# Altium footprint library Miscellaneous$.PcbLib: 26 footprints (part 1 of 2)
Each footprint in its own frame and in the unit in brackets; x right, y up, seen from the top. Pads: shape width x height; smd on the part's side, far side on the other; paste and mask are expansions set on the pad; w line width, h text height; cw(c..) or ccw(c..) is an arc to the next point about the centre after c.
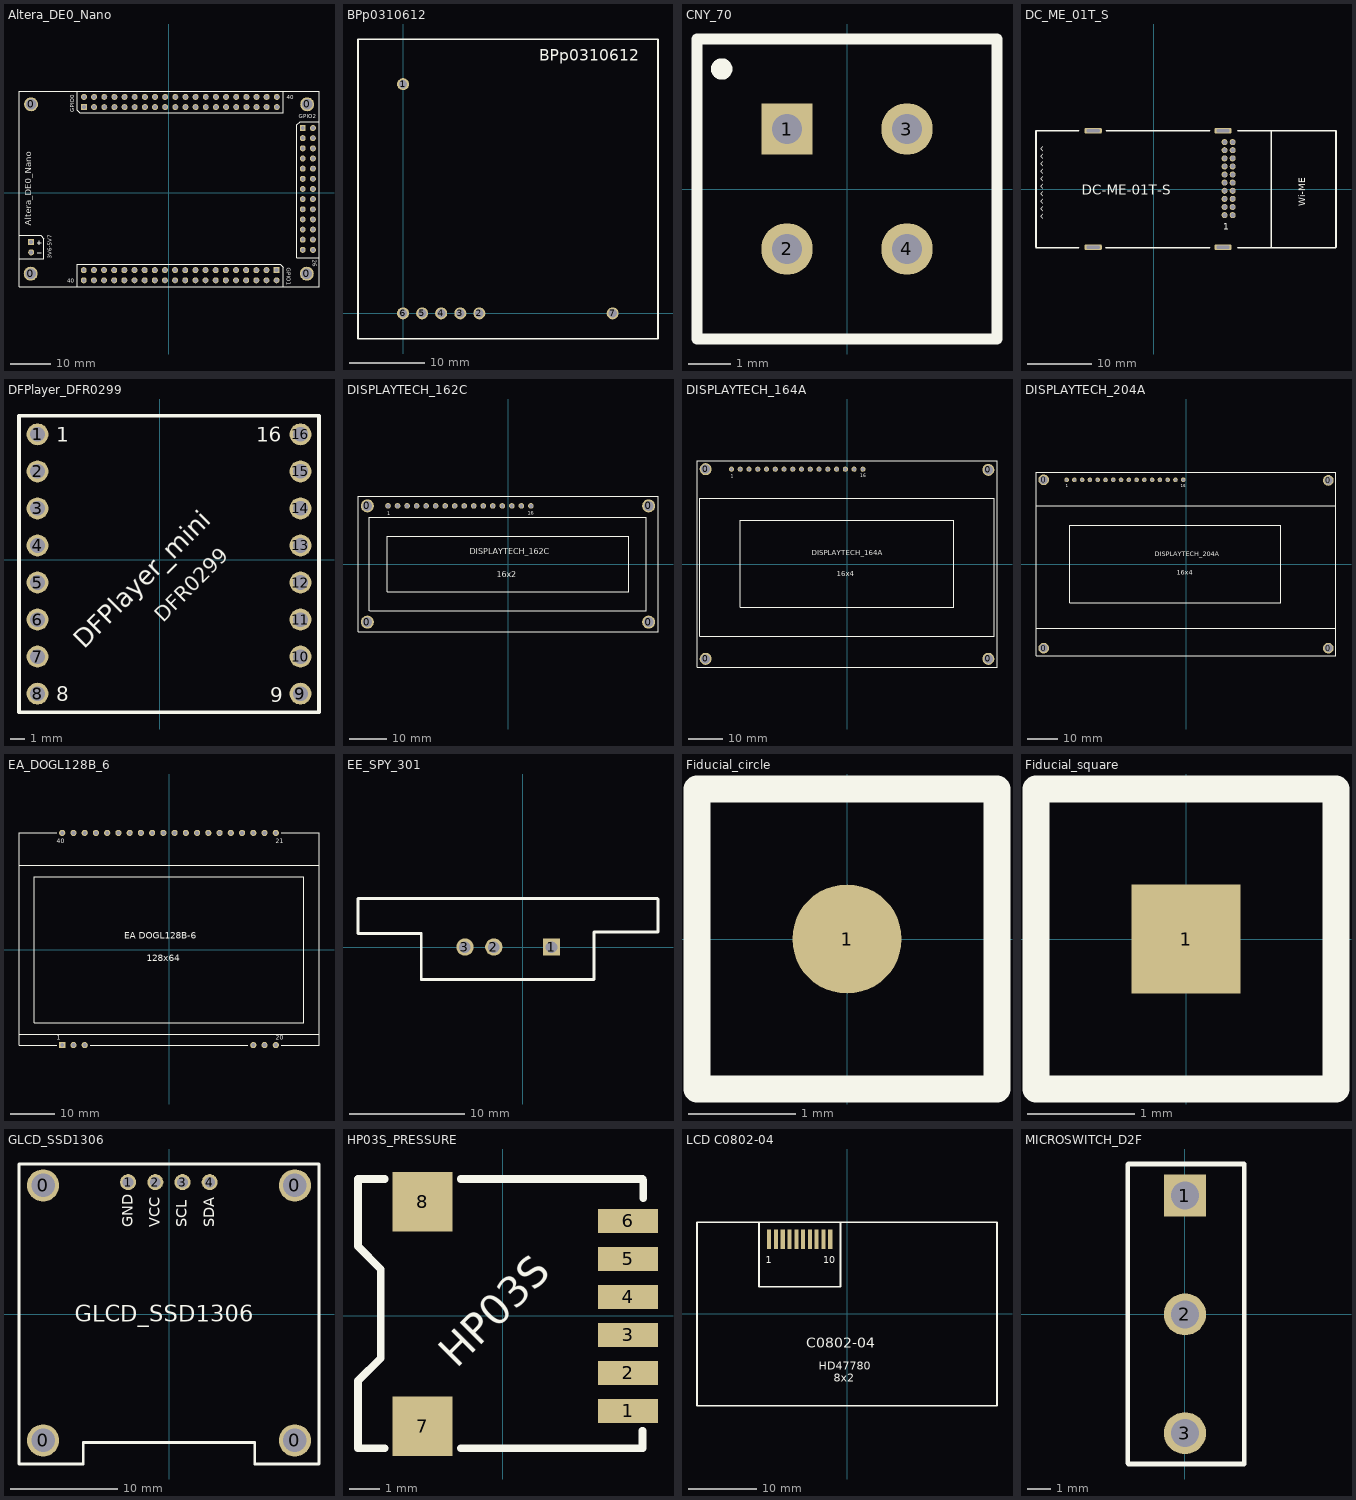
[diagram p0: the footprints below, top view; thin cyan lines are the x and y axes]

## Altera_DE0_Nano [mm]
height 23
pads (112):
  round 3.5 hole 2.6: 0(-34.583,-20.2) 0(-34.481,22.202) 0(34.517,-20.2) 0(34.619,22.202)
  rect 1.5x1.5 hole 1: 1(-21.256,21.5) 101(26.949,-19.31) 201(33.5,16.25) 301(-34.466,-12.32)
  round 1.5 hole 1: 2(-21.256,24.04) 3(-18.716,21.5) 4(-18.716,24.04) 5(-16.176,21.5) 6(-16.176,24.04) 7(-13.636,21.5) 8(-13.636,24.04) 9(-11.096,21.5) 10(-11.096,24.04) 11(-8.556,21.5) 12(-8.556,24.04) 13(-6.016,21.5) 14(-6.016,24.04) 15(-3.476,21.5) 16(-3.476,24.04) 17(-0.936,21.5) 18(-0.936,24.04) 19(1.604,21.5) 20(1.604,24.04) 21(4.144,21.5) 22(4.144,24.04) 23(6.684,21.5) 24(6.684,24.04) 25(9.224,21.5) 26(9.224,24.04) 27(11.764,21.5) 28(11.764,24.04) 29(14.304,21.5) 30(14.304,24.04) 31(16.844,21.5) 32(16.844,24.04) 33(19.384,21.5) 34(19.384,24.04) 35(21.924,21.5) 36(21.924,24.04) 37(24.464,21.5) 38(24.464,24.04) 39(27.004,21.5) 40(27.004,24.04) 102(26.949,-21.85) 103(24.409,-19.31) 104(24.409,-21.85) 105(21.869,-19.31) 106(21.869,-21.85) 107(19.329,-19.31) 108(19.329,-21.85) 109(16.789,-19.31) 110(16.789,-21.85) 111(14.249,-19.31) 112(14.249,-21.85) 113(11.709,-19.31) 114(11.709,-21.85) 115(9.169,-19.31) 116(9.169,-21.85) 117(6.629,-19.31) 118(6.629,-21.85) 119(4.089,-19.31) 120(4.089,-21.85) 121(1.549,-19.31) 122(1.549,-21.85) 123(-0.991,-19.31) 124(-0.991,-21.85) 125(-3.531,-19.31) 126(-3.531,-21.85) 127(-6.071,-19.31) 128(-6.071,-21.85) 129(-8.611,-19.31) 130(-8.611,-21.85) 131(-11.151,-19.31) 132(-11.151,-21.85) 133(-13.691,-19.31) 134(-13.691,-21.85) 135(-16.231,-19.31) 136(-16.231,-21.85) 137(-18.771,-19.31) 138(-18.771,-21.85) 139(-21.311,-19.31) 140(-21.311,-21.85) 202(36.04,16.25) 203(33.5,13.71) 204(36.04,13.71) 205(33.5,11.17) 206(36.04,11.17) 207(33.5,8.63) 208(36.04,8.63) 209(33.5,6.09) 210(36.04,6.09) 211(33.5,3.55) 212(36.04,3.55) 213(33.5,1.01) 214(36.04,1.01) 215(33.5,-1.53) 216(36.04,-1.53) 217(33.5,-4.07) 218(36.04,-4.07) 219(33.5,-6.61) 220(36.04,-6.61) 221(33.5,-9.15) 222(36.04,-9.15) 223(33.5,-11.69) 224(36.04,-11.69) 225(33.5,-14.23) 226(36.04,-14.23) 302(-34.466,-14.86)
Top Overlay:
  lines w0.254: -37.516,-16.4 -31.3,-16.4 -31.3,-11.4 -32.1,-10.6 -37.4,-10.6 ; -33,-12.5 -32,-12.5 ; -32.995,-14.961 -31.995,-14.961 ; -32.5,-13 -32.5,-12 ; -22.911,-23.286 -22.911,-17.87 27.87,-17.87 28.589,-18.589 28.589,-23.31 ; -22.896,25.5 -22.896,20.696 -22.26,20.06 28.604,20.06 28.604,25.476 ; 37.476,-16.25 32.06,-16.25 32.06,17.06 32.89,17.89 37.5,17.89 ; -37.516,-23.5 -37.516,25.5 37.567,25.5 37.567,-23.5 -37.516,-23.5
  text "3V6-5V7" at -29.3,-16.5 h1
  text "40" at 29.5,23.5 h1
  text "GPIO0" at -23.75,20.25 h1
  text "Altera_DE0_Nano" at -34.493,-8.23 h1.52
  text "40" at -25.5,-22.5 h1
  text "GPIO1" at 29.5,-18.75 h1
  text "26" at 36,-16.75 h1
  text "GPIO2" at 32.5,18.75 h1
3D body: height 22, standoff 17, extent -37.5,-16.75 37.5,19
3D body: height 14, standoff 12, extent 11.775,-1.4 26.25,13.4
3D body: height 11.5, standoff 10, extent -37.5,-23.5 37.5,25.5
3D body: height 9.5, standoff 0, extent -36.745,-22.362 -32.421,-18.038
3D body: height 18, standoff 10, extent -21.609,-22.144 -21.012,-21.545
3D body: height 18, standoff 10, extent -21.608,-19.609 -21.01,-19.01
3D body: height 18, standoff 10, extent -19.069,-19.604 -18.472,-19.005
3D body: height 18, standoff 10, extent -19.069,-22.144 -18.472,-21.545
3D body: height 18, standoff 10, extent -16.529,-22.144 -15.932,-21.545
3D body: height 18, standoff 10, extent -16.529,-19.604 -15.932,-19.005
3D body: height 18, standoff 10, extent -13.988,-19.609 -13.39,-19.01
3D body: height 18, standoff 10, extent -13.988,-22.149 -13.39,-21.55
3D body: height 18, standoff 10, extent -11.448,-22.149 -10.85,-21.55
3D body: height 18, standoff 10, extent -11.448,-19.609 -10.85,-19.01
3D body: height 18, standoff 10, extent -8.909,-19.604 -8.312,-19.005
3D body: height 18, standoff 10, extent -8.909,-22.144 -8.312,-21.545
3D body: height 18, standoff 10, extent -6.369,-22.144 -5.772,-21.545
3D body: height 18, standoff 10, extent -6.369,-19.604 -5.772,-19.005
3D body: height 18, standoff 10, extent -3.829,-19.604 -3.232,-19.005
3D body: height 18, standoff 10, extent -3.829,-22.144 -3.232,-21.545
3D body: height 18, standoff 10, extent -1.289,-22.144 -0.692,-21.545
3D body: height 18, standoff 10, extent -1.289,-19.604 -0.692,-19.005
3D body: height 18, standoff 10, extent 1.252,-19.609 1.85,-19.01
3D body: height 18, standoff 10, extent 1.251,-22.144 1.848,-21.545
3D body: height 18, standoff 10, extent 3.791,-19.604 4.388,-19.005
3D body: height 18, standoff 10, extent 3.792,-22.149 4.39,-21.55
3D body: height 18, standoff 10, extent 6.331,-19.604 6.928,-19.005
3D body: height 18, standoff 10, extent 6.331,-22.144 6.928,-21.545
3D body: height 18, standoff 10, extent 8.871,-19.604 9.468,-19.005
3D body: height 18, standoff 10, extent 8.872,-22.149 9.47,-21.55
3D body: height 18, standoff 10, extent 11.411,-19.604 12.008,-19.005
3D body: height 18, standoff 10, extent 11.411,-22.144 12.008,-21.545
3D body: height 18, standoff 10, extent 13.952,-22.149 14.55,-21.55
3D body: height 18, standoff 10, extent 13.952,-19.609 14.55,-19.01
3D body: height 18, standoff 10, extent 16.492,-19.609 17.09,-19.01
3D body: height 18, standoff 10, extent 16.492,-22.149 17.09,-21.55
3D body: height 18, standoff 10, extent 19.032,-22.149 19.63,-21.55
3D body: height 18, standoff 10, extent 19.031,-19.604 19.628,-19.005
3D body: height 18, standoff 10, extent 21.572,-19.609 22.17,-19.01
3D body: height 18, standoff 10, extent 21.571,-22.144 22.168,-21.545
3D body: height 18, standoff 10, extent 24.111,-22.144 24.708,-21.545
3D body: height 18, standoff 10, extent 24.111,-19.604 24.708,-19.005
3D body: height 18, standoff 10, extent 26.651,-19.604 27.248,-19.005
3D body: height 18, standoff 10, extent 26.651,-22.144 27.248,-21.545
3D body: height 18, standoff 10, extent -19.015,21.206 -18.417,21.805
3D body: height 18, standoff 10, extent -19.015,23.746 -18.417,24.345
3D body: height 18, standoff 10, extent -21.553,23.741 -20.956,24.34
3D body: height 18, standoff 10, extent -21.555,21.206 -20.957,21.805
3D body: height 18, standoff 10, extent -13.935,21.206 -13.337,21.805
3D body: height 18, standoff 10, extent -13.935,23.746 -13.337,24.345
3D body: height 18, standoff 10, extent -16.473,23.741 -15.876,24.34
3D body: height 18, standoff 10, extent -16.475,21.206 -15.877,21.805
3D body: height 18, standoff 10, extent -8.855,21.206 -8.257,21.805
3D body: height 18, standoff 10, extent -8.855,23.746 -8.257,24.345
3D body: height 18, standoff 10, extent -11.393,23.741 -10.796,24.34
3D body: height 18, standoff 10, extent -11.395,21.206 -10.797,21.805
3D body: height 18, standoff 10, extent -3.775,21.206 -3.177,21.805
3D body: height 18, standoff 10, extent -3.775,23.746 -3.177,24.345
3D body: height 18, standoff 10, extent -6.313,23.741 -5.716,24.34
3D body: height 18, standoff 10, extent -6.315,21.206 -5.717,21.805
3D body: height 18, standoff 10, extent 1.305,21.206 1.903,21.805
3D body: height 18, standoff 10, extent 1.305,23.746 1.903,24.345
3D body: height 18, standoff 10, extent -1.233,23.741 -0.636,24.34
3D body: height 18, standoff 10, extent -1.235,21.206 -0.637,21.805
3D body: height 18, standoff 10, extent 6.385,21.206 6.983,21.805
3D body: height 18, standoff 10, extent 6.385,23.746 6.983,24.345
3D body: height 18, standoff 10, extent 3.847,23.741 4.444,24.34
3D body: height 18, standoff 10, extent 3.845,21.206 4.443,21.805
3D body: height 18, standoff 10, extent 11.465,21.206 12.063,21.805
3D body: height 18, standoff 10, extent 11.465,23.746 12.063,24.345
3D body: height 18, standoff 10, extent 8.927,23.741 9.524,24.34
3D body: height 18, standoff 10, extent 8.925,21.206 9.523,21.805
3D body: height 18, standoff 10, extent 16.545,21.206 17.143,21.805
3D body: height 18, standoff 10, extent 16.545,23.746 17.143,24.345
3D body: height 18, standoff 10, extent 14.007,23.741 14.604,24.34
3D body: height 18, standoff 10, extent 14.005,21.206 14.603,21.805
3D body: height 18, standoff 10, extent 21.626,21.201 22.224,21.8
3D body: height 18, standoff 10, extent 21.626,23.741 22.224,24.34
3D body: height 18, standoff 10, extent 19.088,23.735 19.685,24.334
3D body: height 18, standoff 10, extent 19.086,21.201 19.684,21.8
3D body: height 18, standoff 10, extent 26.705,21.206 27.303,21.805
3D body: height 18, standoff 10, extent 26.705,23.746 27.303,24.345
3D body: height 18, standoff 10, extent 24.167,23.741 24.764,24.34
3D body: height 18, standoff 10, extent 24.165,21.206 24.763,21.805
3D body: height 8.5, standoff 0.5, extent 33.201,13.416 33.799,14.015
3D body: height 8.5, standoff 0.5, extent 33.202,15.951 33.8,16.55
3D body: height 8.5, standoff 0.5, extent 35.741,15.956 36.339,16.555
3D body: height 8.5, standoff 0.5, extent 35.741,13.416 36.339,14.015
3D body: height 8.5, standoff 0.5, extent 33.201,8.336 33.799,8.935
3D body: height 8.5, standoff 0.5, extent 33.202,10.871 33.8,11.47
3D body: height 8.5, standoff 0.5, extent 35.741,10.876 36.339,11.475
3D body: height 8.5, standoff 0.5, extent 35.741,8.336 36.339,8.935
3D body: height 8.5, standoff 0.5, extent 33.201,3.256 33.799,3.855
3D body: height 8.5, standoff 0.5, extent 33.202,5.791 33.8,6.39
3D body: height 8.5, standoff 0.5, extent 35.741,5.796 36.339,6.395
3D body: height 8.5, standoff 0.5, extent 35.741,3.256 36.339,3.855
3D body: height 8.5, standoff 0.5, extent 33.201,-1.824 33.799,-1.225
3D body: height 8.5, standoff 0.5, extent 33.202,0.711 33.8,1.31
3D body: height 8.5, standoff 0.5, extent 35.741,0.716 36.339,1.315
3D body: height 8.5, standoff 0.5, extent 35.741,-1.824 36.339,-1.225
3D body: height 8.5, standoff 0.5, extent 33.203,-6.909 33.8,-6.31
3D body: height 8.5, standoff 0.5, extent 33.204,-4.375 33.801,-3.776
3D body: height 8.5, standoff 0.5, extent 35.743,-4.369 36.34,-3.77
3D body: height 8.5, standoff 0.5, extent 35.743,-6.909 36.34,-6.31
3D body: height 8.5, standoff 0.5, extent 33.201,-14.524 33.799,-13.925
3D body: height 8.5, standoff 0.5, extent 33.202,-11.989 33.8,-11.39
3D body: height 8.5, standoff 0.5, extent 35.741,-11.984 36.339,-11.385
3D body: height 8.5, standoff 0.5, extent 35.741,-14.524 36.339,-13.925
3D body: height 8.5, standoff 0.5, extent 35.741,-9.444 36.339,-8.845
3D body: height 8.5, standoff 0.5, extent 33.201,-9.444 33.799,-8.845
3D body: height 22, standoff 12, extent -36.745,-22.362 -32.421,-18.038
3D body: height 14, standoff 12, extent -3.112,9.675 6.612,16.325
3D body: height 14, standoff 12, extent -22.681,1.175 -16.319,7.825
3D body: height 14, standoff 12, extent -36.965,14.838 -31.534,18.663
3D body: height 9.5, standoff 0, extent -36.644,20.039 -32.319,24.364
3D body: height 22, standoff 12, extent -36.644,20.039 -32.319,24.364
3D body: height 9.5, standoff 0, extent 32.456,20.039 36.781,24.364
3D body: height 22, standoff 12, extent 32.456,20.039 36.781,24.364
3D body: height 9.5, standoff 0, extent 32.355,-22.362 36.679,-18.038
3D body: height 22, standoff 12, extent 32.355,-22.362 36.679,-18.038
3D body: height 8.5, standoff 0.5, extent -34.763,-15.159 -34.166,-14.56
3D body: height 8.5, standoff 0.5, extent -34.763,-12.619 -34.166,-12.02

## BPp0310612 [mm]
height 18.5
pads (7):
  round 1.6 hole 1.1: 1(0,30.5) 2(10.16,0) 3(7.62,0) 4(5.08,0) 5(2.54,0) 6(0,0) 7(27.9,0)
Top Overlay:
  lines w0.254: -5.994,-3.378 -5.994,36.474 33.934,36.474 33.934,-3.378 -5.994,-3.378
  text "BPp0310612" at 18.1,33.6 h1.52
3D body: height 18, standoff 0, extent -5.9,-3.4 34.1,36.324

## CNY_70 [mm]
height 6
pads (4):
  rect 1.2x1.2 hole 0.7: 1(-1.4,1.4)
  round 1.2 hole 0.7: 2(-1.4,-1.4) 3(1.4,1.4) 4(1.4,-1.4)
Top Overlay:
  circle w0.25: c-2.925,2.8 r0.125
  lines w0.254: -3.5,-3.5 -3.5,3.5 3.5,3.5 3.5,-3.5 -3.5,-3.5
3D body: height 5, standoff 0, extent -3.5,-3.5 3.5,3.5

## DC_ME_01T_S [mm]
height 20
pads (24):
  rrect50% 2.7x0.9 hole 0.508 slot 2.032 at 0 deg: 0(-9.449,-9.094) 0(-9.449,9.145) 0(10.871,-9.094) 0(10.871,9.145)
  round 0.95 hole 0.711: 1(11.121,-4.063) 2(12.391,-4.063) 3(11.121,-2.793) 4(12.391,-2.793) 5(11.121,-1.523) 6(12.391,-1.523) 7(11.121,-0.253) 8(12.391,-0.253) 9(11.121,1.017) 10(12.391,1.017) 11(11.121,2.287) 12(12.391,2.287) 13(11.121,3.557) 14(12.391,3.557) 15(11.121,4.827) 16(12.391,4.827) 17(11.121,6.097) 18(12.391,6.097) 19(11.121,7.367) 20(12.391,7.367)
Top Overlay:
  lines w0.254: -18.4,9.1 -18.4,-9.1 -18.35,-9.15 ; -18.364,-9.15 -11.709,-9.15 ; -18.339,9.15 -11.684,9.15 ; -7.442,-9.15 8.763,-9.15 ; -7.417,9.15 8.788,9.15 ; 13.157,-9.15 18.4,-9.15 18.4,9.1 ; 13.183,9.15 18.415,9.15 28.524,9.15 ; 18.44,-9.15 28.55,-9.15 ; 28.563,-9.1 28.563,9.1
  text "^^^^^^^^^^" at -16.637,-4.877 h1
  text "DC-ME-01T-S" at -11.227,-0.864 h1.52
  text "Wi-ME" at 23.774,-2.642 h1
  text "1" at 10.897,-6.325 h1
3D body: height 17.7, standoff 0.1, extent -18.567,-9.068 18.364,9.144
3D body: height 17.7, standoff 0.1, extent 18.72,-9.144 28.575,9.144

## DFPlayer_DFR0299 [mm]
height 8
pads (16):
  round 1.5 hole 1: 1(-8.382,8.611) 2(-8.382,6.071) 3(-8.382,3.531) 4(-8.382,0.991) 5(-8.382,-1.549) 6(-8.382,-4.089) 7(-8.382,-6.629) 8(-8.382,-9.169) 9(9.652,-9.169) 10(9.652,-6.629) 11(9.652,-4.089) 12(9.652,-1.549) 13(9.652,0.991) 14(9.652,3.531) 15(9.652,6.071) 16(9.652,8.611)
Top Overlay:
  lines w0.254: -9.652,-10.439 10.922,-10.439 10.922,9.881 -9.652,9.881 -9.652,-10.439
  text "DFR0299" at 0.254,-4.343 h1.02
  text "DFPlayer_mini" at -5.182,-6.172 h1.27
  text "16" at 6.604,8.103 h1
  text "1" at -7.112,8.103 h1
  text "8" at -7.112,-9.677 h1
  text "9" at 7.569,-9.754 h1
3D body: height 6, standoff 5, extent -5.588,-10.439 7.112,3.531
3D body: height 4, standoff 0, extent -9.652,-10.439 10.922,9.881

## DISPLAYTECH_162C [mm]
height 11
pads (20):
  round 3.5 hole 2.6: 0(-37.5,-15.5) 0(-37.5,15.5) 0(37.5,-15.5) 0(37.5,15.5)
  round 1.5 hole 1: 1(-32,15.5) 2(-29.46,15.5) 3(-26.92,15.5) 4(-24.38,15.5) 5(-21.84,15.5) 6(-19.3,15.5) 7(-16.76,15.5) 8(-14.22,15.5) 9(-11.68,15.5) 10(-9.14,15.5) 11(-6.6,15.5) 12(-4.06,15.5) 13(-1.52,15.5) 14(1.02,15.5) 15(3.56,15.5) 16(6.1,15.5)
Top Overlay:
  lines w0.254: -37,-12.4 -37,12.4 36.9,12.4 36.9,-12.35 36.85,-12.4 -36.85,-12.4 ; 32.2,-7.4 32.2,7.4 -32.25,7.4 -32.25,-7.4 32.25,-7.4 ; -40,-18 -40,18 40,18 40,-18 -40,-18
  text "16" at 5.3,13.1 h1
  text "1" at -32.2,13 h1
  text "DISPLAYTECH_162C" at -10.16,2.54 h1.52
  text "16x2" at -3,-3.5 h1.52
3D body: height 1, standoff 0, extent -40,-18 40,18
3D body: height 11, standoff 10.1, extent -32.25,-7.4 32.2,7.4
3D body: height 10, standoff 1.1, extent -37,-12.4 37,12.4

## DISPLAYTECH_164A [mm]
height 7
pads (20):
  round 3.5 hole 2.6: 0(-41,-27.5) 0(-41,27.5) 0(41,-27.5) 0(41,27.3)
  round 1.5 hole 1: 1(-33.5,27.5) 2(-30.96,27.5) 3(-28.42,27.5) 4(-25.88,27.5) 5(-23.34,27.5) 6(-20.8,27.5) 7(-18.26,27.5) 8(-15.72,27.5) 9(-13.18,27.5) 10(-10.64,27.5) 11(-8.1,27.5) 12(-5.56,27.5) 13(-3.02,27.5) 14(-0.48,27.5) 15(2.06,27.5) 16(4.6,27.5)
Top Overlay:
  lines w0.254: -43.5,-30 43.5,-30 43.5,30 -43.5,30 -43.5,-30 ; -42.7,-21 -42.7,19 42.7,19 42.7,-21 -42.7,-21 ; -30.9,-12.6 30.9,-12.6 30.9,12.7 -30.9,12.7 -30.9,-12.6
  text "16x4" at -3,-3.5 h1.52
  text "DISPLAYTECH_164A" at -10.16,2.54 h1.52
  text "16" at 3.8,25.1 h1
  text "1" at -33.7,25 h1
3D body: height 6, standoff 1.1, extent -42.7,-21 42.7,19.1
3D body: height 7, standoff 6.1, extent -30.9,-12.6 30.9,12.55
3D body: height 1, standoff 0, extent -43.5,-30 43.5,30

## DISPLAYTECH_204A [mm]
height 11
pads (20):
  round 3.5 hole 2.6: 0(-46.5,-27.5) 0(-46.5,27.5) 0(46.5,-27.5) 0(46.5,27.3)
  round 1.5 hole 1: 1(-39,27.5) 2(-36.46,27.5) 3(-33.92,27.5) 4(-31.38,27.5) 5(-28.84,27.5) 6(-26.3,27.5) 7(-23.76,27.5) 8(-21.22,27.5) 9(-18.68,27.5) 10(-16.14,27.5) 11(-13.6,27.5) 12(-11.06,27.5) 13(-8.52,27.5) 14(-5.98,27.5) 15(-3.44,27.5) 16(-0.9,27.5)
Top Overlay:
  lines w0.254: -49,-21 49,-21 ; -49,19 49,19 ; 30.9,-12.7 -38,-12.7 -38,12.6 30.9,12.6 30.9,-12.6 ; -49,-30 -49,30 49,30 49,-30 -49,-30
  text "DISPLAYTECH_204A" at -10.16,2.54 h1.52
  text "16x4" at -3,-3.5 h1.52
  text "16" at -1.7,25.1 h1
  text "1" at -39.2,25 h1
3D body: height 10, standoff 1.1, extent -49,-21.1 49,19
3D body: height 11, standoff 10.1, extent -38,-12.6 30.9,12.6
3D body: height 1, standoff 0, extent -49,-30 49,30

## EA_DOGL128B_6 [mm]
height 3
pads (26):
  rect 1.4x1.4 hole 0.85: 1(-24.13,-21.544)
  round 1.4 hole 0.85: 2(-21.59,-21.544) 3(-19.05,-21.544) 18(19.05,-21.544) 19(21.59,-21.544) 20(24.13,-21.544) 21(24.13,26.416) 22(21.59,26.416) 23(19.05,26.416) 24(16.51,26.416) 25(13.97,26.416) 26(11.43,26.416) 27(8.89,26.416) 28(6.35,26.416) 29(3.81,26.416) 30(1.27,26.416) 31(-1.27,26.416) 32(-3.81,26.416) 33(-6.35,26.416) 34(-8.89,26.416) 35(-11.43,26.416) 36(-13.97,26.416) 37(-16.51,26.416) 38(-19.05,26.416) 39(-21.59,26.416) 40(-24.13,26.416)
Top Overlay:
  lines w0.254: -33.9,-19.05 33.9,-19.05 ; -33.9,19.05 33.9,19.05 ; -25.4,-21.59 -33.9,-21.59 -33.9,26.416 -25.4,26.416 ; -17.78,-21.59 17.78,-21.59 ; 25.4,-21.59 33.9,-21.59 33.9,26.416 25.4,26.416 ; 30.4,-16.45 -30.48,-16.45 -30.48,16.45 30.4,16.45 30.4,-16.43
  text "128x64" at -5.08,-2.54 h1.52
  text "EA DOGL128B-6" at -10.16,2.54 h1.52
  text "1" at -25.4,-20.32 h1
  text "20" at 24.13,-20.32 h1
  text "21" at 24.13,24.13 h1
  text "40" at -25.4,24.13 h1
3D body: height 2, standoff 1.1, extent -30.48,-16.45 30.4,16.45
3D body: height 1, standoff 0, extent -33.9,-21.59 33.9,26.416

## EE_SPY_301 [mm]
height 20
pads (3):
  rect 1.5x1.5 hole 1: 1(2.5,0)
  round 1.5 hole 1: 2(-2.5,0) 3(-5,0)
Top Overlay:
  lines w0.254: 11.686,4.2 -14.27,4.2 -14.27,1.194 -8.788,1.194 -8.788,-2.8 6.198,-2.8 6.198,1.321 11.73,1.321 11.73,4.166
3D body: height 5, standoff 0, extent 6.096,1.905 11.684,4.191
3D body: height 5, standoff 0, extent -14.27,1.854 -8.585,4.14
3D body: height 20, standoff 0, extent -8.27,-2.8 5.73,4.2

## Fiducial_circle [mil]
pads (1):
  round 40 smd mask+20: 1(0,0)
Top Overlay:
  lines w10: -55,-55 -25,-55 25,-55 55,-55 55,55 -55,55 -55,-55

## Fiducial_square [mil]
pads (1):
  rect 40x40 smd mask+20: 1(0,0)
Top Overlay:
  lines w10: -55,-55 -55,55 55,55 55,-55 25,-55 -25,-55 -55,-55

## GLCD_SSD1306 [mm]
height 6
pads (8):
  round 3 hole 2.2: 0(-11.75,-11.8) 0(-11.75,12) 0(11.75,-11.8) 0(11.75,12)
  round 1.5 hole 1: 1(-3.82,12.3) 2(-1.28,12.3) 3(1.26,12.3) 4(3.8,12.3)
Top Overlay:
  lines w0.254: -14,-14 -8,-14 -8,-12 8,-12 8,-14 14,-14 14,14 -14,14 -14,-14
  text "SDA" at 4.22,8.1 h1
  text "SCL" at 1.68,8.1 h1
  text "VCC" at -0.86,8.1 h1
  text "GLCD_SSD1306" at -8.8,-0.7 h1.52
  text "GND" at -3.4,8.1 h1
3D body: height 6, standoff 4, extent -13.225,-9 13,9
3D body: height 3, standoff 2.5, extent -14,-14 14,14

## HP03S_PRESSURE [mm]
height 5
pads (8):
  rect 2x0.8 smd: 1(4.191,-3.175) 2(4.191,-1.905) 3(4.191,-0.635) 4(4.191,0.635) 5(4.191,1.905) 6(4.191,3.175)
  rect 2x2 smd: 7(-2.667,-3.683) 8(-2.667,3.81)
Top Overlay:
  lines w0.254: -3.937,-4.42 -4.826,-4.42 -4.826,-2.172 -4.064,-1.41 -4.064,1.562 -4.826,2.324 -4.826,4.572 -3.937,4.572 ; -1.397,-4.42 4.674,-4.42 4.674,-3.835 ; -1.397,4.572 4.674,4.572 ; 4.699,3.937 4.699,4.521
  text "HP03S" at -1.524,-1.778 h1.02
3D body: height 1, standoff 0, extent -4.801,-4.293 4.674,4.597
3D body: height 6.4, standoff 1.4, extent -4.06,-3.886 3.908,4.098

## LCD C0802-04 [mm]
height 10
pads (10):
  rect 0.6x2.9 smd: 1(-11.5,11) 2(-10.5,11) 3(-9.5,11) 4(-8.5,11) 5(-7.5,11) 6(-6.5,11) 7(-5.5,11) 8(-4.5,11) 9(-3.5,11) 10(-2.5,11)
Top Overlay:
  lines w0.254: -22.15,-13.5 -22.15,13.5 ; -22.1,-13.536 22.1,-13.536 22.1,13.5 -22.1,13.5 ; -13,13.5 -13,4 -1,4 -1,13.5
  text "HD47780" at -4.2,-8.25 h1.2
  text "1" at -12,7.5 h1
  text "10" at -3.5,7.5 h1
  text "C0802-04" at -6,-5 h1.52
  text "8x2" at -2,-10 h1.2
3D body: height 6, standoff 5, extent -22,-13.5 22,13.5
3D body: height 8, standoff 6.5, extent -22,-11 22,13.575

## MICROSWITCH_D2F [mm]
height 7
pads (3):
  rect 1.8x1.8 hole 1.2: 1(0,5.08)
  round 1.8 hole 1.2: 2(0,0) 3(0,-5.08)
Top Overlay:
  lines w0.2: -2.453,-6.354 -2.453,6.413 ; -2.413,-6.4 2.54,-6.4 2.54,6.427 -2.413,6.427
3D body: height 6.5, standoff 0, extent -2.413,-6.299 2.54,6.35